# EAGLE library part LTC6993 (library wg_library)
TimerBlox: Monostable Pulse Generator (One Shot) Source: https://www.analog.com/media/en/technical-documentation/data-sheets/LTC6993-6993-1-6993-2-6993-3-6993-4.pdf
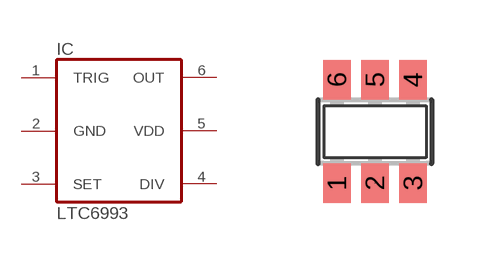
[diagram p12: symbol with the pads of SOT23-6; footprint SOT23-6]

Designator prefix IC

## LTC6993S6  [SOT23-6]
1  TRIG  in
2  GND  pwr
3  SET  in
4  DIV  in
5  VDD  pwr
6  OUT  out

## Footprint SOT23-6 (pad centres in mm)
smd 0.69 x 0.99: 1 -0.95,-1.29; 2 0,-1.29; 3 0.95,-1.29; 4 0.95,1.3; 5 0,1.3; 6 -0.95,1.3